# Altium footprint library DPAK-5_TO252-5_.PcbLib: 1 footprints
Each footprint in its own frame and in the unit in brackets; x right, y up, seen from the top. Pads: shape width x height; smd on the part's side, far side on the other; paste and mask are expansions set on the pad; w line width, h text height; cw(c..) or ccw(c..) is an arc to the next point about the centre after c.
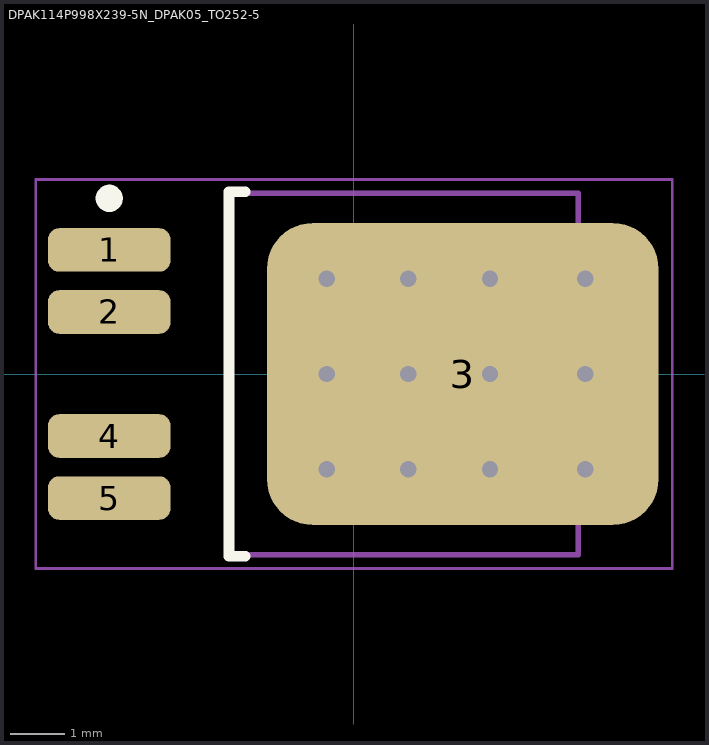
[diagram p0: the footprint, top view; thin cyan lines are the x and y axes]

## DPAK114P998X239-5N_DPAK05_TO252-5 [mm] "D-PAK, 5-Pads, Body 6.31x6.69mm (max), IPC Medium Density"
height 2.39
pads (5):
  rrect50% 2.25x0.8 smd: 1(-4.5,2.28) 2(-4.5,1.14) 4(-4.5,-1.14) 5(-4.5,-2.28)
  rrect30% 7.2x5.55 smd: 3(2,0)
via 2.5,0 diameter 0.6 hole 0.3
via 2.5,1.75 diameter 0.6 hole 0.3
via 2.5,-1.75 diameter 0.6 hole 0.3
via 4.25,0 diameter 0.6 hole 0.3
via 4.25,1.75 diameter 0.6 hole 0.3
via 4.25,-1.75 diameter 0.6 hole 0.3
via 1,0 diameter 0.6 hole 0.3
via 1,1.75 diameter 0.6 hole 0.3
via 1,-1.75 diameter 0.6 hole 0.3
via -0.5,0 diameter 0.6 hole 0.3
via -0.5,1.75 diameter 0.6 hole 0.3
via -0.5,-1.75 diameter 0.6 hole 0.3
Top Overlay:
  circle w0.25: c-4.5,3.23 r0.125
  lines w0.2: -2,-3.35 -2.3,-3.35 -2.3,3.35 -2,3.35
Top Assembly:
  lines w0.1: -2.3,-3.325 4.12,-3.325 4.12,3.325 -2.3,3.325 -2.3,-3.325
Top Courtyard:
  lines w0.05: -5.85,-3.575 5.85,-3.575 5.85,3.575 -5.85,3.575 -5.85,-3.575
  lines w0.1: -0.5,0 0.5,0 ; 0,-0.5 0,0.5
3D body "DPAK114P998X239-5N.step": height 2.39, standoff 0, extent -4.615,-3.325 5.365,3.325